# Altium schematic symbol library 2017-07-11_17-31-07.SchLib: 2 symbols
Pins are listed as number, name and electrical type; pins without a type are passive.

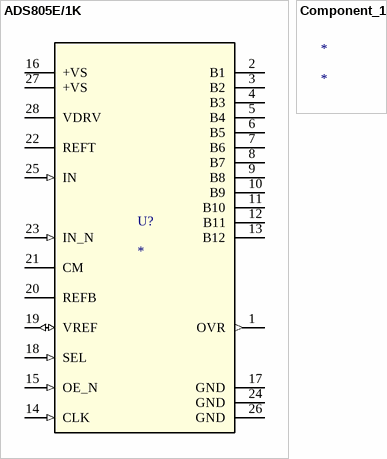
[diagram p0: symbols ADS805E/1K to Component_1]

## ADS805E/1K
designator U?
Imported; PartNumber: ADS805E/1K; Manufacturer: Texas Instruments; RefDes: RefDes; TYPE: TYPE; Value: Value
footprint DB0028A_N
pins: 1 OVR (out), 2 B1 (hiz), 3 B2 (hiz), 4 B3 (hiz), 5 B4 (hiz), 6 B5 (hiz), 7 B6 (hiz), 8 B7 (hiz), 9 B8 (hiz), 10 B9 (hiz), 11 B10 (hiz), 12 B11 (hiz), 13 B12 (hiz), 14 CLK (in), 15 OE_N (in), 16 +VS (power), 17 GND (power), 18 SEL (in), 19 VREF (io), 20 REFB, 21 CM, 22 REFT, 23 IN_N (in), 24 GND (power), 25 IN (in), 26 GND (power), 27 +VS (power), 28 VDRV (power)

## Component_1
designator *